# Altium schematic symbol library DMP6350SQ-7.SchLib: 1 symbol
Pins are listed as number, name and electrical type; pins without a type are passive.

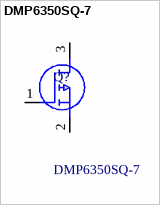
[diagram p0: symbol DMP6350SQ-7]

## DMP6350SQ-7
designator Q?
MOSFET MOSFET BVDSS: 41V~60V SOT23 T&R 3K; Manufacturer_Name: Diodes Inc.; Geometry.Height: 1.1mm; Manufacturer_Part_Number: DMP6350SQ-7; Mouser Part Number: 621-DMP6350SQ-7; Mouser Price/Stock: https://www.mouser.co.uk/ProductDetail/Diodes-Incorporated/DMP6350SQ-7?qs=0lSvoLzn4L9E2rqiW%2FUVgw%3D%3D; Arrow Part Number: *; Arrow Price/Stock: *; Datasheet Link: https://www.diodes.com/assets/Datasheets/DMP6350SQ.pdf
footprint SOT96P240X110-3N
pins: 1 G, 2 S, 3 D